# Altium footprint library Intercom Gen2 Main PCB.PcbLib: 115 footprints (part 6 of 8)
Each footprint in its own frame and in the unit in brackets; x right, y up, seen from the top. Pads: shape width x height; smd on the part's side, far side on the other; paste and mask are expansions set on the pad; w line width, h text height; cw(c..) or ccw(c..) is an arc to the next point about the centre after c.
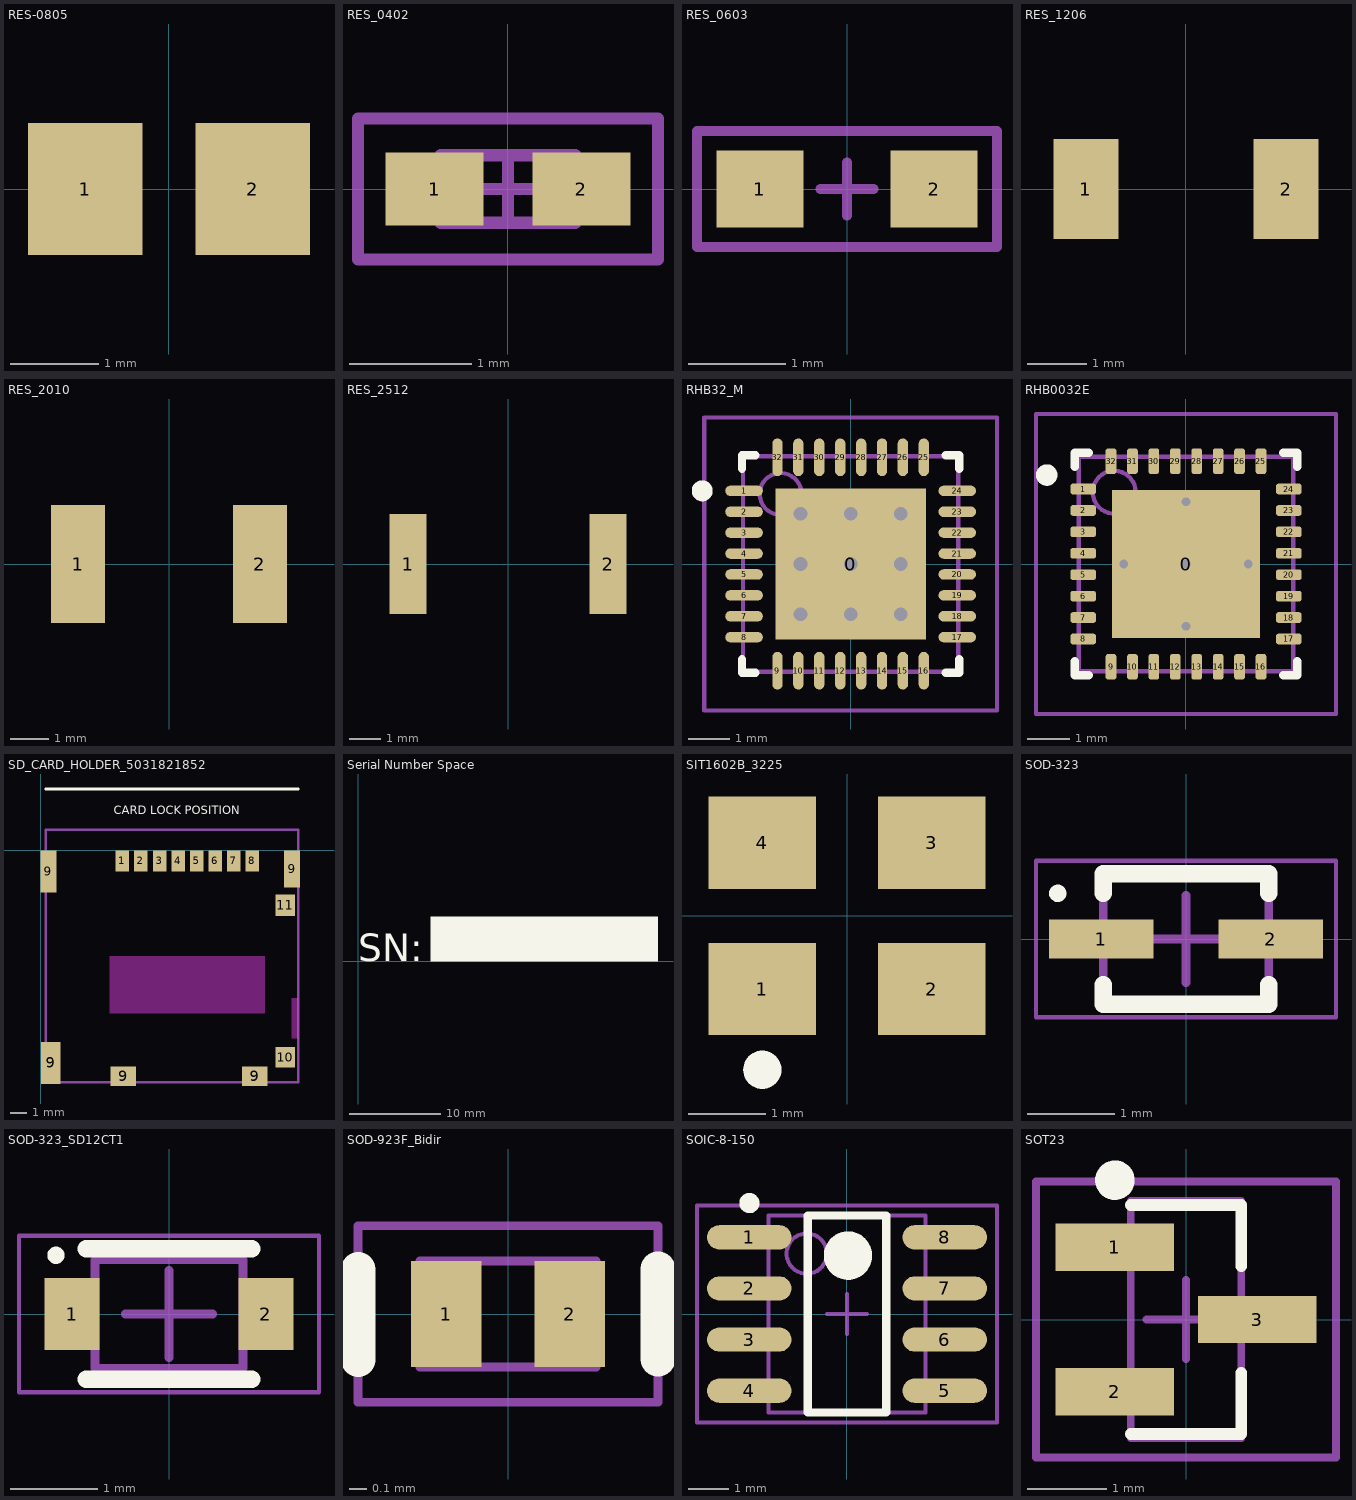
[diagram p5: the footprints below, top view; thin cyan lines are the x and y axes]

## RES-0805 [mm]
pads (2):
  rect 1.3x1.5 smd: 1(-0.95,0) 2(0.95,0)
3D body "SW3DPS-RESISTOR 0805-DEFAULT.STEP": height 0.48, standoff 0.02, extent -1,-0.63 1,0.63

## RES_0402 [mm]
height 0.35
pads (2):
  rect 0.8x0.6 smd: 1(-0.6,0) 2(0.6,0)
Mechanical 13:
  lines w0.1: -0.55,-0.275 -0.55,0.275 0.55,0.275 0.55,-0.275 -0.55,-0.275
Mechanical 15:
  lines w0.1: -0.275,0 0.275,0 ; 0,-0.275 0,0.275 ; -1.225,-0.575 -1.225,0.575 1.225,0.575 1.225,-0.575 -1.225,-0.575
3D body: height 0.35, standoff 0, extent -0.55,-0.275 0.55,0.275

## RES_0603 [mm] "0.18 spacing"
height 0.35
pads (2):
  rect 0.9x0.8 smd: 1(-0.9,0) 2(0.9,0)
Mechanical 15:
  lines w0.1: -0.275,0 0.275,0 ; 0,-0.275 0,0.275 ; -1.55,-0.6 1.55,-0.6 1.55,0.6 -1.55,0.6 -1.55,-0.6
3D body: height 0.5, standoff 0, extent -0.8,-0.4 0.8,0.4

## RES_1206 [mm]
pads (2):
  rect 1.1x1.7 smd: 1(-1.7,0) 2(1.7,0)
3D body: height 0.6, standoff 0, extent -1.65,-0.875 1.65,0.875

## RES_2010 [mm]
pads (2):
  rect 1.4x3.05 smd: 1(-2.35,0) 2(2.35,0)
3D body: height 0.7, standoff 0, extent -2.55,-1.3 2.55,1.3

## RES_2512 [mm]
pads (2):
  rect 1.2x3.2 smd: 1(-3.2,0) 2(3.2,0)
3D body: height 0.7, standoff 0, extent -3.25,-1.65 3.25,1.65

## RHB32_M [mm] "32-Pin Plastic Quad Flat No-Lead 0.5 mm Pitch, IPC Low Density"
height 1
pads (33):
  rect 3.6x3.6 smd: 0(0,0)
  oval 0.9x0.25 smd: 1(-2.55,1.75) 2(-2.55,1.25) 3(-2.55,0.75) 4(-2.55,0.25) 5(-2.55,-0.25) 6(-2.55,-0.75) 7(-2.55,-1.25) 8(-2.55,-1.75) 17(2.55,-1.75) 18(2.55,-1.25) 19(2.55,-0.75) 20(2.55,-0.25) 21(2.55,0.25) 22(2.55,0.75) 23(2.55,1.25) 24(2.55,1.75)
  oval 0.25x0.9 smd: 9(-1.75,-2.55) 10(-1.25,-2.55) 11(-0.75,-2.55) 12(-0.25,-2.55) 13(0.25,-2.55) 14(0.75,-2.55) 15(1.25,-2.55) 16(1.75,-2.55) 25(1.75,2.55) 26(1.25,2.55) 27(0.75,2.55) 28(0.25,2.55) 29(-0.25,2.55) 30(-0.75,2.55) 31(-1.25,2.55) 32(-1.75,2.55)
via 1.2,-1.2 diameter 0.66 hole 0.33
via 0,-1.2 diameter 0.66 hole 0.33
via -1.2,-1.2 diameter 0.66 hole 0.33
via 1.2,0 diameter 0.66 hole 0.33
via 0,0 diameter 0.66 hole 0.33
via -1.2,0 diameter 0.66 hole 0.33
via 1.2,1.2 diameter 0.66 hole 0.33
via 0,1.2 diameter 0.66 hole 0.33
via -1.2,1.2 diameter 0.66 hole 0.33
Top Overlay:
  circle w0.25: c-3.55,1.75 r0.125
  lines w0.2: -2.6,-2.275 -2.6,-2.6 -2.275,-2.6 ; -2.6,2.275 -2.6,2.6 -2.275,2.6 ; 2.275,-2.6 2.6,-2.6 2.6,-2.275 ; 2.275,2.6 2.6,2.6 2.6,2.275
Mechanical 13:
  circle w0.1: c-1.675,1.675 r0.5
  lines w0.1: -2.575,-2.575 2.575,-2.575 2.575,2.575 -2.575,2.575 -2.575,-2.575
Mechanical 15:
  lines w0.1: -0.5,0 0.5,0 ; 0,-0.5 0,0.5 ; -3.5,-3.5 3.5,-3.5 3.5,3.5 -3.5,3.5 -3.5,-3.5
3D body: height 1, standoff 0, extent -2.575,-2.575 2.575,2.575

## RHB0032E [mm] "TI VQFN 32-Pin Plastic Quad Flat No-Lead 0.5 mm Pitch, Body 5.0x5.0mm, Thermal Pad 3.45mm"
height 1
pads (33):
  rect 3.45x3.45 smd paste-100 mask+0: 0(0,0)
  rrect50% 0.6x0.25 smd mask+0.07: 1(-2.4,1.75) 2(-2.4,1.25) 3(-2.4,0.75) 4(-2.4,0.25) 5(-2.4,-0.25) 6(-2.4,-0.75) 7(-2.4,-1.25) 8(-2.4,-1.75) 17(2.4,-1.75) 18(2.4,-1.25) 19(2.4,-0.75) 20(2.4,-0.25) 21(2.4,0.25) 22(2.4,0.75) 23(2.4,1.25) 24(2.4,1.75)
  rrect50% 0.25x0.6 smd mask+0.07: 9(-1.75,-2.4) 10(-1.25,-2.4) 11(-0.75,-2.4) 12(-0.25,-2.4) 13(0.25,-2.4) 14(0.75,-2.4) 15(1.25,-2.4) 16(1.75,-2.4) 25(1.75,2.4) 26(1.25,2.4) 27(0.75,2.4) 28(0.25,2.4) 29(-0.25,2.4) 30(-0.75,2.4) 31(-1.25,2.4) 32(-1.75,2.4)
via -1.45,0 diameter 0.4 hole 0.2
via 0,-1.45 diameter 0.4 hole 0.2
via 0,0 diameter 0.4 hole 0.2
via 0,1.45 diameter 0.4 hole 0.2
via 1.45,0 diameter 0.4 hole 0.2
Top Overlay:
  circle w0.25: c-3.25,2.075 r0.125
  lines w0.2: -2.6,-2.275 -2.6,-2.6 -2.275,-2.6 ; -2.6,2.275 -2.6,2.6 -2.275,2.6 ; 2.275,-2.6 2.6,-2.6 2.6,-2.275 ; 2.275,2.6 2.6,2.6 2.6,2.275
Top Paste:
  rectangle: 0.1,-1.59 1.59,-0.1
  rectangle: -1.59,-1.59 -0.1,-0.1
  rectangle: 0.1,0.1 1.59,1.59
  rectangle: -1.59,0.1 -0.1,1.59
Mechanical 13:
  circle w0.1: c-1.675,1.675 r0.5
  lines w0.1: -2.5,-2.5 2.5,-2.5 2.5,2.5 -2.5,2.5 -2.5,-2.5
Mechanical 15:
  lines w0.1: -0.5,0 0.5,0 ; 0,-0.5 0,0.5 ; -3.5,-3.5 3.5,-3.5 3.5,3.5 -3.5,3.5 -3.5,-3.5
3D body "RHB0032E.stp": height 1, standoff 0, extent -2.5,-2.5 2.5,2.5

## SD_CARD_HOLDER_5031821852 [mm]
pads (15):
  rect 0.8x1.24 smd: 1(4.82,-0.62) 2(5.92,-0.62) 3(7.02,-0.62) 4(8.12,-0.62) 5(9.22,-0.62) 6(10.32,-0.62) 7(11.42,-0.62) 8(12.52,-0.62)
  rect 0.95x2.5 smd: 9(0.445,-1.25)
  rect 1.15x2.5 smd: 9(0.575,-12.58)
  rect 1.5x1.15 smd: 9(4.88,-13.375) 9(12.66,-13.375)
  rect 0.95x2.2 smd: 9(14.865,-1.1)
  rect 1.16x1.2 smd: 10(14.46,-12.25)
  rect 1.16x1.25 smd: 11(14.46,-3.25)
Top Layer keep-out:
  region: 4.07,-6.25 4.07,-9.65 13.27,-9.65 13.27,-6.25
  region: 15.24,-8.75 14.84,-8.75 14.84,-11.15 15.24,-11.15
Top Overlay:
  lines w0.15: 0.277,3.627 15.217,3.627
  text "CARD LOCK POSITION" at 4.325,2.125 h0.5
Mechanical 13:
  lines w0.15: 0.277,-13.723 0.277,1.227 15.217,1.227 15.217,-13.723 0.277,-13.723
3D body "5031821852.stp": height 1.46, standoff 0.01, extent 0.277,-13.723 15.217,1.227

## Serial Number Space [mm]
Top Overlay:
  rectangle: 8.001,-0.047 33.001,4.953
  text "SN:" at 0,0 h3

## SIT1602B_3225 [mm] "SiT1602B_3225 Series"
height 0.75
pads (5):
  rect 1.4x1.2 smd paste-0.1: 1(-1.1,-0.95) 2(1.1,-0.95) 3(1.1,0.95) 4(-1.1,0.95)
  round 0.5 on Top Overlay: ""(-1.1,-2)
3D body "SiT1602B_3225.stp": height 0.76, standoff -0.04, extent -1.6,-1.25 1.6,1.25

## SOD-323 [mm] "SODFL, 2-Leads, Body 1.30x2.55mm, IPC Medium Density"
height 1.14
pads (2):
  rect 1.2x0.45 smd: 1(-0.975,0) 2(0.975,0)
Top Overlay:
  circle w0.1: c-1.475,0.525 r0.05
  lines w0.2: -0.95,-0.525 -0.95,-0.75 0.95,-0.75 0.95,-0.525 ; -0.95,0.525 -0.95,0.75 0.95,0.75 0.95,0.525
Mechanical 13:
  lines w0.1: -0.95,-0.725 0.95,-0.725 0.95,0.725 -0.95,0.725 -0.95,-0.725
Mechanical 15:
  lines w0.05: -1.725,-0.9 1.725,-0.9 1.725,0.9 -1.725,0.9 -1.725,-0.9
  lines w0.1: -0.5,0 0.5,0 ; 0,-0.5 0,0.5
3D body: height 1.14, standoff 0, extent -0.95,-0.725 0.95,0.725

## SOD-323_SD12CT1 [mm] "SON Semi SD12CT1_ 2-Leads, Body 1.25x2.50mm, pitch 2.1mm"
height 1
pads (2):
  rect 0.63x0.83 smd: 1(-1.115,0) 2(1.115,0)
Top Overlay:
  circle w0.1: c-1.3,0.675 r0.05
  lines w0.2: -0.95,-0.75 0.95,-0.75 ; -0.95,0.75 0.95,0.75
Mechanical 13:
  lines w0.1: -0.85,-0.2 -1.17,-0.2 -1.17,0.2 -0.85,0.2 ; 0.85,-0.2 1.17,-0.2 1.17,0.2 0.85,0.2 ; -0.85,-0.625 0.85,-0.625 0.85,0.625 -0.85,0.625 -0.85,-0.625
Mechanical 15:
  lines w0.05: -1.725,-0.9 1.725,-0.9 1.725,0.9 -1.725,0.9 -1.725,-0.9
  lines w0.1: -0.5,0 0.5,0 ; 0,-0.5 0,0.5
3D body: height 0.12, standoff 0, extent 0.85,-0.2 1.17,0.2
3D body: height 0.12, standoff 0, extent -1.17,-0.2 -0.85,0.2
3D body: height 1, standoff 0, extent -0.85,-0.625 0.85,0.625

## SOD-923F_Bidir [mm] "0402C/SOD-923F 1mmx0.6mmx0.5mm"
height 0.5
pads (2):
  rect 0.4x0.6 smd: 1(-0.35,0) 2(0.35,0)
Top Overlay:
  lines w0.2: -0.85,-0.258 -0.85,0.25 ; 0.85,-0.254 0.85,0.254
Mechanical 13:
  lines w0.05: -0.5,-0.3 0.5,-0.3 0.5,0.3 -0.5,0.3 -0.5,-0.3
Mechanical 15:
  lines w0.05: -0.85,-0.5 0.85,-0.5 0.85,0.5 -0.85,0.5 -0.85,-0.5
3D body: height 0.43, standoff 0.05, extent -0.4,-0.3 0.4,0.3
3D body: height 0.44, standoff 0.43, extent 0.3,-0.3 0.4,0.3
3D body: height 0.5, standoff 0, extent -0.5,-0.3 0.5,0.3

## SOIC-8-150 [mm]
height 1.75
pads (8):
  oval 2.1x0.6 smd: 1(-2.425,1.905) 2(-2.425,0.635) 3(-2.425,-0.635) 4(-2.425,-1.905) 5(2.425,-1.905) 6(2.425,-0.635) 7(2.425,0.635) 8(2.425,1.905)
Top Overlay:
  circle w0.6: c0.025,1.45 r0.3
  circle w0.25: c-2.425,2.755 r0.125
  lines w0.2: -0.975,-2.45 0.975,-2.45 0.975,2.45 -0.975,2.45 -0.975,-2.45
Mechanical 13:
  circle w0.1: c-1,1.5 r0.5
  lines w0.1: -1.95,-2.45 1.95,-2.45 1.95,2.45 -1.95,2.45 -1.95,-2.45
Mechanical 15:
  lines w0.1: -0.5,0 0.5,0 ; 0,-0.5 0,0.5 ; -3.725,-2.7 3.725,-2.7 3.725,2.7 -3.725,2.7 -3.725,-2.7
3D body "SW3dPS-SOIC08-150.step": height 1.77, standoff 0.02, extent -2.9,-2.4 2.9,2.4

## SOT23 [mm] "SOT23, 3-Leads, Body 3.0x2.5mm (max), Pitch 0.92mm, IPC Medium Density"
height 1.1
pads (3):
  rect 1.5x0.6 smd: 1(-0.9,0.915) 2(-0.9,-0.915) 3(0.9,0)
Top Overlay:
  circle w0.25: c-0.9,1.765 r0.125
  lines w0.15: -0.7,-1.45 0.7,-1.45 0.7,-0.675 ; -0.7,1.45 0.7,1.45 0.7,0.675
Mechanical 13:
  lines w0.1: -0.7,-1.5 0.7,-1.5 0.7,1.5 -0.7,1.5 -0.7,-1.5
Mechanical 15:
  lines w0.1: -0.5,0 0.5,0 ; 0,-0.5 0,0.5 ; -1.9,-1.75 1.9,-1.75 1.9,1.75 -1.9,1.75 -1.9,-1.75
3D body: height 1.1, standoff 0.1, extent -0.7,-1.5 0.7,1.5